# Altium footprint library myMISC.PcbLib: 15 footprints
Each footprint in its own frame and in the unit in brackets; x right, y up, seen from the top. Pads: shape width x height; smd on the part's side, far side on the other; paste and mask are expansions set on the pad; w line width, h text height; cw(c..) or ccw(c..) is an arc to the next point about the centre after c.
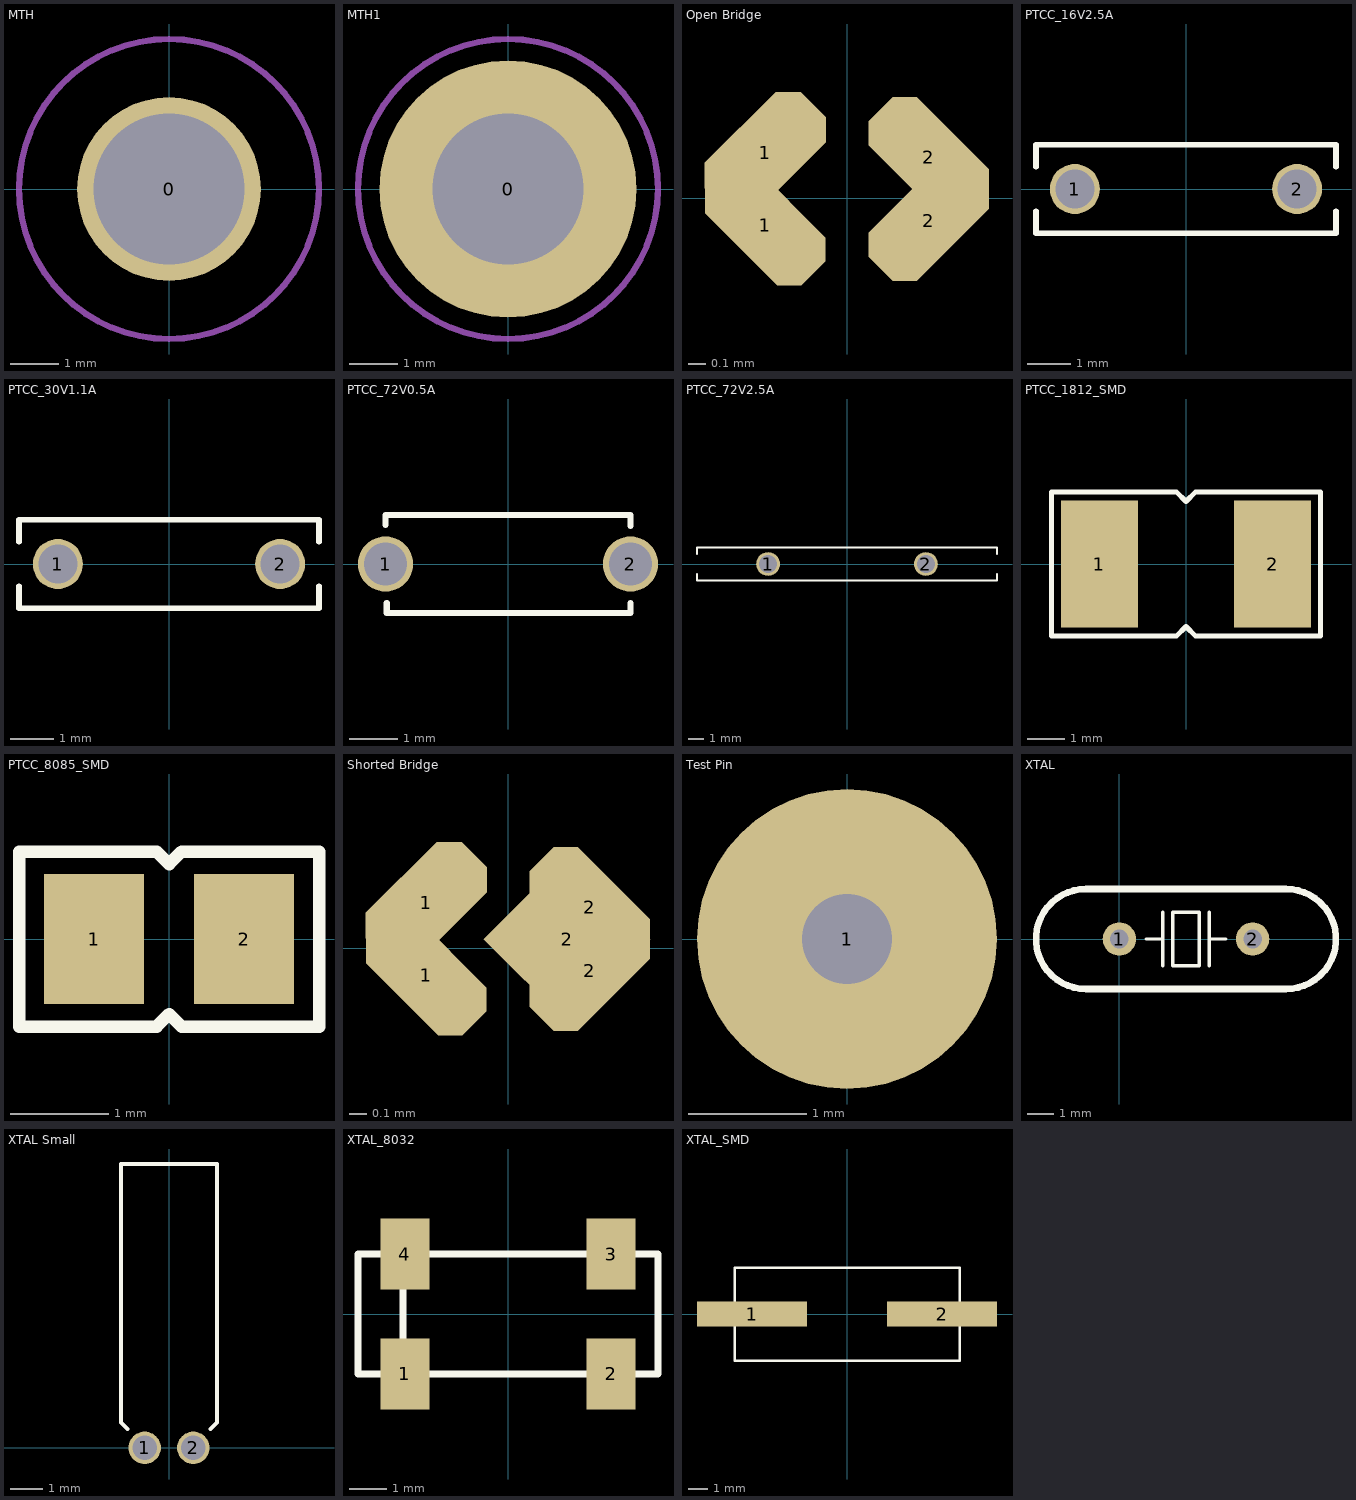
[diagram p0: the footprints below, top view; thin cyan lines are the x and y axes]

## MTH [mil]
pads (1):
  round 150 hole 123: 0(0,0)
Mechanical 1:
  circle w5: c0,0 r122.5
3D body: height 100, standoff 0, extent -70,-65 70,60

## MTH1 [mil]
pads (1):
  round 210 hole 123: 0(0,0)
Mechanical 1:
  circle w5: c0,0 r122.5
3D body: height 100, standoff 0, extent -70,-65 70,60

## Open Bridge [mil]
pads (4):
  oct 15x30 smd rot 45: 1(-18,-6) 2(18,9)
  oct 15.75x30 smd rot 135: 1(-18,10)
  oct 15x30 smd rot 135: 2(18,-5)

## PTCC_16V2.5A [mil]
height 436
pads (2):
  round 45 hole 35: 1(-100,0) 2(100,0)
Top Overlay:
  lines w5: -135,-20 -135,-40 135,-40 135,-20 ; -135,20 -135,40 135,40 135,20
3D body: height 436, standoff 0, extent -101,-41 100,41

## PTCC_30V1.1A [mil]
height 485
pads (2):
  round 45 hole 35: 1(-100,0) 2(100,0)
Top Overlay:
  lines w5: -135,-20 -135,-40 135,-40 135,-20 ; -135,20 -135,40 135,40 135,20
3D body: height 485, standoff 0, extent -101,-41 100,41

## PTCC_72V0.5A [mil]
height 340
pads (2):
  round 45 hole 35: 1(-100,0) 2(100,0)
Top Overlay:
  lines w5: -100,32 -100,40 100,40 100,31 ; -99,-32 -99,-40 100,-40 100,-32
3D body: height 340, standoff 0, extent -100,-41 100,40

## PTCC_72V2.5A [mil]
height 823
pads (2):
  round 60 hole 45: 1(-200,0) 2(200,0)
Top Overlay:
  lines w5: -380,-25 -380,-42 380,-42 380,-25 ; -380,25 -380,42 380,42 380,25
3D body: height 823, standoff 0, extent -200,-42 200,42

## PTCC_1812_SMD [mil]
pads (2):
  rect 80x132 smd: 1(-90,0) 2(90,0)
Top Overlay:
  lines w5: -140,-75 -10,-75 0,-65 10,-75 140,-75 140,75 10,75 0,65 -10,75 -140,75 -140,-75
3D body: height 30, standoff 0, extent -140,-75 140,75

## PTCC_8085_SMD [mil]
pads (2):
  rect 40x52 smd: 1(-30,0) 2(30,0)
Top Overlay:
  lines w5: -60,-35 -30.25,-35 -5,-35 0,-30 5,-35 29.25,-35 60,-35 60,35 5,35 0,30 -5,35 -60,35 -60,-35
3D body: height 30, standoff 0, extent -60,-35 60,35

## Shorted Bridge [mil]
pads (5):
  oct 15x30 smd rot 45: 1(-18,-6) 2(18,9)
  oct 15.75x30 smd rot 135: 1(-18,10)
  rect 26x26 smd rot 45: 2(13,2)
  oct 15x30 smd rot 135: 2(18,-5)

## Test Pin [mil]
pads (1):
  round 100 hole 30: 1(0,0)

## XTAL [mil]
height 136
pads (2):
  round 50 hole 28: 1(0,0) 2(200,0)
Top Overlay:
  lines w5: 40,0 65,0 ; 65,-40 65,40 ; 135,-40 135,40 ; 135,0 160,0 ; 80,-40 80,40 120,40 120,-40 80,-40
  lines w10: -50,-75 cw(c-50,0) -50,75 250,75 cw(c250,0) 250,-75 -50,-75
3D body: height 136, standoff 0, extent -125,-75 324,75

## XTAL Small [mil]
height 120
pads (2):
  round 40 hole 30: 1(-30,0) 2(30,0)
Top Overlay:
  lines w5: -51,23 -59,31 -59,350 59,350 59,31 51,23
3D body: height 120, standoff 0, extent -60,25 60,350

## XTAL_8032 [mm]
height 2.4
pads (4):
  rect 1.3x1.9 smd: 1(-2.75,-1.6) 2(2.75,-1.6) 3(2.75,1.6) 4(-2.75,1.6)
Top Overlay:
  lines w0.198: -2.8,-1.6 -2.8,1.6 ; -4,-1.6 4,-1.6 4,1.6 -4,1.6 -4,-1.6
3D body: height 2.4, standoff 0, extent -4,-1.6 4,1.6

## XTAL_SMD [mil]
height 122
pads (2):
  rect 220x50 smd: 1(-190,0) 2(190,0)
Top Overlay:
  lines w5: -225,-93 225,-93 225,93 -225,93 -225,-93
3D body: height 122, standoff 0, extent -225,-95 225,95